# Altium footprint library UROV_Aux_Lib.PcbLib: 6 footprints
Each footprint in its own frame and in the unit in brackets; x right, y up, seen from the top. Pads: shape width x height; smd on the part's side, far side on the other; paste and mask are expansions set on the pad; w line width, h text height; cw(c..) or ccw(c..) is an arc to the next point about the centre after c.
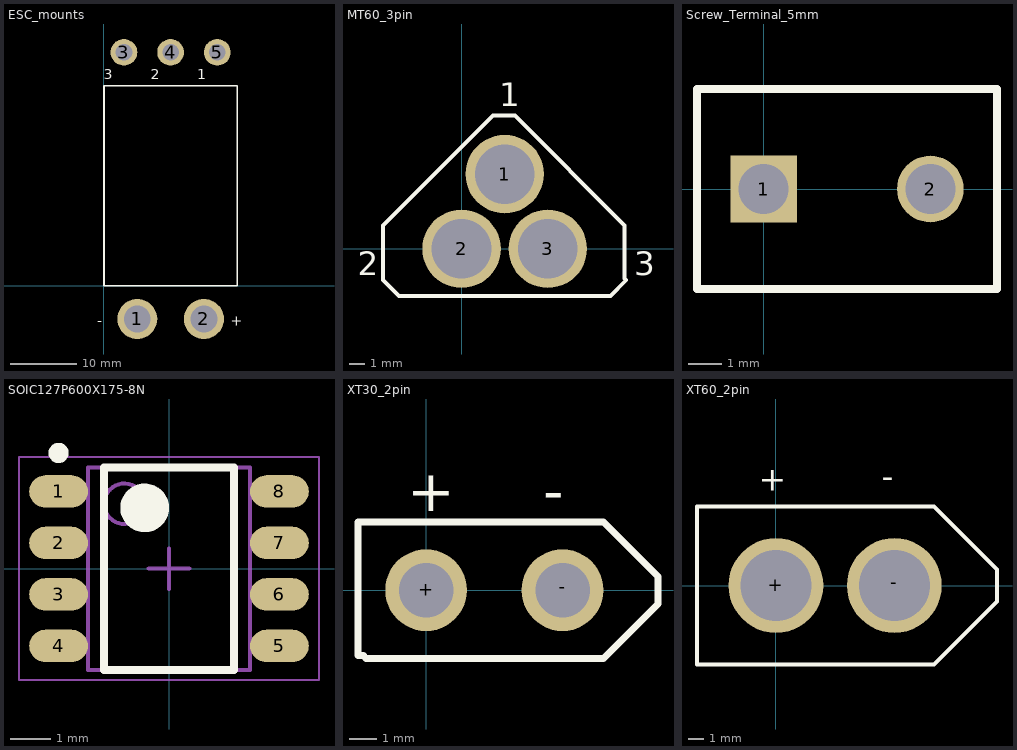
[diagram p0: the footprints below, top view; thin cyan lines are the x and y axes]

## ESC_mounts [mm]
pads (5):
  round 6 hole 4: 1(5,-5) 2(15,-5)
  round 4 hole 2.5: 3(3,35) 4(10,35) 5(17,35)
Top Overlay:
  lines w0.254: 0,0 20,0 20,30 0,30 0,0
  text "+" at 19,-6 h1.52
  text "-" at -1,-6 h1.52
  text "1" at 14,31 h1.52
  text "2" at 7,31 h1.52
  text "3" at 0,31 h1.52

## MT60_3pin [mm]
pads (3):
  round 5 hole 3.8: 1(2.75,4.763) 2(0,0) 3(5.5,0)
Top Overlay:
  lines w0.254: -5,-2 -4,-3 9.5,-3 10.5,-2 ; -5,-2 -5,-2 ; -5,-2 -5,1.5 2,8.5 2.5,8.5 3.4,8.5 10.4,1.5 10.4,-1.9 10.5,-2 ; 10.5,-2 10.5,-2
  text "2" at -6.6,-1.7 h1.52
  text "3" at 11,-1.7 h1.52
  text "1" at 2.4,9.1 h1.52

## Screw_Terminal_5mm [mm]
pads (2):
  rect 2x2 hole 1.5: 1(0,0)
  round 2 hole 1.5: 2(5,0)
Top Overlay:
  lines w0.254: -2,-3 7,-3 7,3 -2,3 -2,0 -2,-3

## SOIC127P600X175-8N [mm] "SOIC, 8-Leads, Body 4.90x3.90mm, Pitch 1.27mm, IPC Medium Density"
height 1.75
pads (8):
  oval 1.45x0.8 smd: 1(-2.725,1.905) 2(-2.725,0.635) 3(-2.725,-0.635) 4(-2.725,-1.905) 5(2.725,-1.905) 6(2.725,-0.635) 7(2.725,0.635) 8(2.725,1.905)
Top Overlay:
  circle w0.6: c-0.6,1.5 r0.3
  circle w0.25: c-2.725,2.855 r0.125
  lines w0.2: -1.6,-2.5 1.6,-2.5 1.6,2.5 -1.6,2.5 -1.6,-2.5
Mechanical 13:
  circle w0.1: c-1.1,1.6 r0.5
  lines w0.1: -2,-2.5 2,-2.5 2,2.5 -2,2.5 -2,-2.5
Mechanical 15:
  lines w0.05: -3.7,-2.75 3.7,-2.75 3.7,2.75 -3.7,2.75 -3.7,-2.75
  lines w0.1: -0.5,0 0.5,0 ; 0,-0.5 0,0.5
3D body "SOIC127P600X175-8N.step": height 2, standoff 0.2, extent -3,-2.5 3,2.5

## XT30_2pin [mm]
pads (2):
  round 3 hole 2: +(0,0) -(5,0)
Top Overlay:
  lines w0.254: -2.5,-2.4 -2.5,2.5 6.5,2.5 8.5,0.5 8.5,-0.5 6.5,-2.5 6,-2.5 5.7,-2.5 4.7,-2.5 2.7,-2.5 -2.2,-2.5 -2.3,-2.4 -2.5,-2.4
  text "+" at -0.7,2.9 h1.52
  text "-" at 4.3,2.9 h1.52

## XT60_2pin [mm]
pads (2):
  round 6 hole 4.5: +(0,0) -(7.5,0)
Top Overlay:
  lines w0.254: 14,-1 14,1 ; 14,-1 10,-5 -5,-5 -5,4 -5,5 10,5 14,1 ; 14,-1 14,1
  text "+" at -1.1,6 h1.52
  text "-" at 6.7,6.2 h1.52